# Altium schematic symbol library RT0603BRD07249KL.SchLib: 1 symbol
Pins are listed as number, name and electrical type; pins without a type are passive.

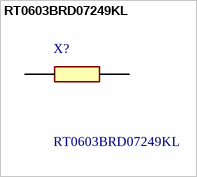
[diagram p0: symbol RT0603BRD07249KL]

## RT0603BRD07249KL
designator X?
Thin Film Resistors - SMD 1/10W 249K ohm .1% 25ppm; Manufacturer_Name: Yageo Group; Geometry.Height: 0.55mm; Mouser Part Number: 603-RT0603BRD07249KL; Mouser Price/Stock: http://www.mouser.com/Search/ProductDetail.aspx?qs=gY0y7AQI9SOcSWSW5jI5dg%3d%3d; Manufacturer_Part_Number: RT0603BRD07249KL; Datasheet Link: https://componentsearchengine.com/Datasheets/1/RT0603BRD07249KL.pdf
footprint RESC1608X55N
pins: 1, 2